# Altium footprint library SODFL470X105-2N.PcbLib: 1 footprints
Each footprint in its own frame and in the unit in brackets; x right, y up, seen from the top. Pads: shape width x height; smd on the part's side, far side on the other; paste and mask are expansions set on the pad; w line width, h text height; cw(c..) or ccw(c..) is an arc to the next point about the centre after c.
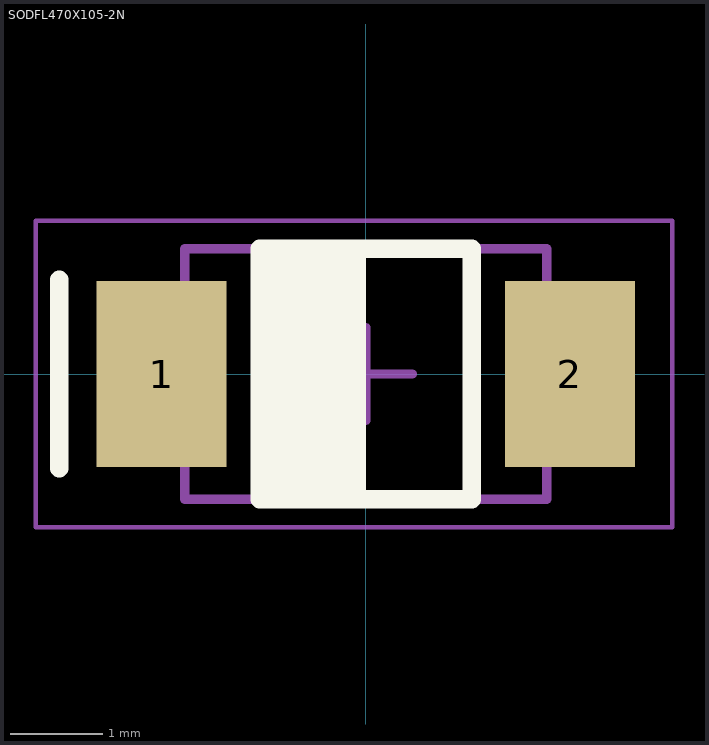
[diagram p0: the footprint, top view; thin cyan lines are the x and y axes]

## SODFL470X105-2N [mm] "SODFL, 2-Leads, Body 2.50x4.70mm, IPC Medium Density"
height 1.05
pads (2):
  rect 1.4x2 smd: 1(-2.2,0) 2(2.2,0)
Top Overlay:
  rectangle: -1.143,-1.35 0,1.35
  lines w0.2: -3.302,-1.016 -3.302,1.016 ; -1.143,-1.35 -1.143,1.35 1.143,1.35 1.143,-1.35 -1.143,-1.35
Mechanical 13:
  lines w0.1: -1.95,-1.35 -1.95,1.35 1.95,1.35 1.95,-1.35 -1.95,-1.35
Mechanical 15:
  lines w0.05: -3.556,-1.651 -3.556,1.651 3.302,1.651 3.302,-1.651 -3.556,-1.651
  lines w0.1: -0.5,0 0.5,0 ; 0,-0.5 0,0.5
3D body "SODFL470X105-2N1.step": height 1.05, standoff 0, extent -2.35,-1.35 2.35,1.35